# Altium schematic symbol library RC0805FR-07205RL.SchLib: 1 symbol
Pins are listed as number, name and electrical type; pins without a type are passive.

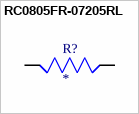
[diagram p0: symbol RC0805FR-07205RL]

## RC0805FR-07205RL
designator R?
RC Series 0805 0.125 W 2 kOhms 5% Â±100 ppm/Â°C SMT Thick Film Chip Resistor; MF: {'manufacturer': u'YAGEO'}; MP: RC0805FR-07205RL; Package: None; Price: None; Value: *; Availability: Unavailable
footprint RESC2012X60
pins: 1, 2